# Altium footprint library 1.60.PcbLib: 19 footprints (part 2 of 2)
Each footprint in its own frame and in the unit in brackets; x right, y up, seen from the top. Pads: shape width x height; smd on the part's side, far side on the other; paste and mask are expansions set on the pad; w line width, h text height; cw(c..) or ccw(c..) is an arc to the next point about the centre after c.
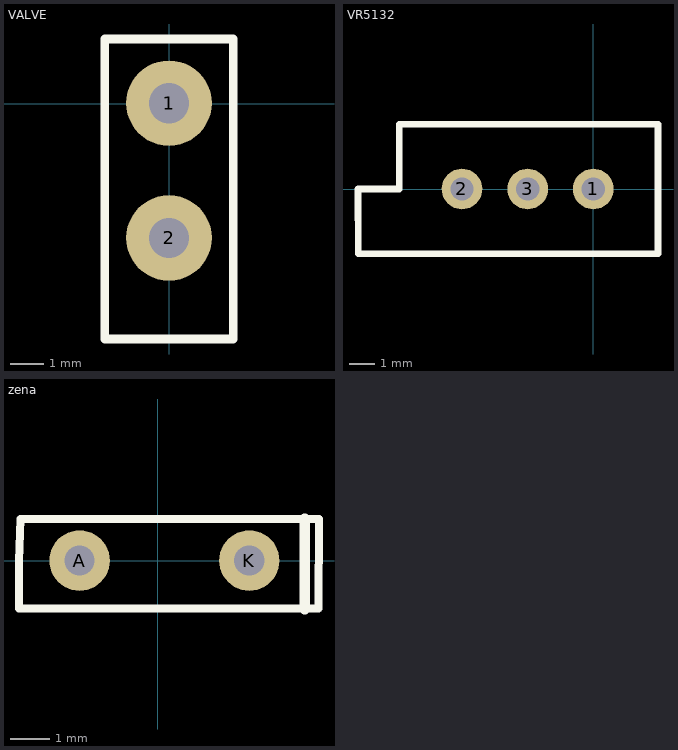
[diagram p1: the footprints below, top view; thin cyan lines are the x and y axes]

## VALVE [mil]
pads (2):
  round 100 hole 47: 1(-0.24,0.54) 2(-0.24,-156.94)
Top Overlay:
  lines w10: -75.24,-275.06 74.76,-275.06 74.76,75.54 -75.24,75.54 -75.24,-275.06

## VR5132 [mil]
pads (3):
  round 62 hole 35.43: 1(-0.13,0.33) 2(-200.13,0.33) 3(-100.13,0.33)
Top Overlay:
  lines w10: -295.7,0.23 -295.7,98.65 98.3,98.76 98.3,-98.09 -295.4,-98.09 ; -295.5,-98.2 -358.3,-98.2 -358.39,0.33 -295.4,0.33

## zena [mil]
pads (2):
  round 60 hole 30: A(-77.56,0.39) K(90.94,0.39)
Top Overlay:
  lines w7.87: -137.79,-47.24 -137.79,0 -136.41,41.63 160.18,41.63 159.79,-47.24 -137.79,-47.24
  lines w10: 146,-48 146,42